# Altium footprint library QFP5-60.PcbLib: 1 footprints
Each footprint in its own frame and in the unit in brackets; x right, y up, seen from the top. Pads: shape width x height; smd on the part's side, far side on the other; paste and mask are expansions set on the pad; w line width, h text height; cw(c..) or ccw(c..) is an arc to the next point about the centre after c.
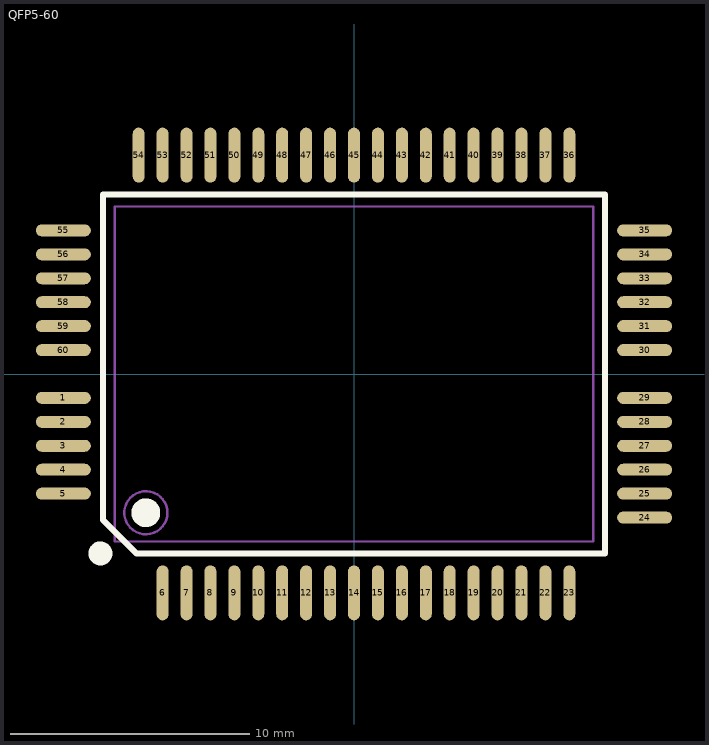
[diagram p0: the footprint, top view; thin cyan lines are the x and y axes]

## QFP5-60 [mm]
pads (60):
  oval 2.3x0.5 smd: 1(-12.15,-1) 2(-12.15,-2) 3(-12.15,-3) 4(-12.15,-4) 5(-12.15,-5) 24(12.15,-6) 25(12.15,-5) 26(12.15,-4) 27(12.15,-3) 28(12.15,-2) 29(12.15,-1) 30(12.15,1) 31(12.15,2) 32(12.15,3) 33(12.15,4) 34(12.15,5) 35(12.15,6) 55(-12.15,6) 56(-12.15,5) 57(-12.15,4) 58(-12.15,3) 59(-12.15,2) 60(-12.15,1)
  oval 0.5x2.3 smd: 6(-8,-9.15) 7(-7,-9.15) 8(-6,-9.15) 9(-5,-9.15) 10(-4,-9.15) 11(-3,-9.15) 12(-2,-9.15) 13(-1,-9.15) 14(0,-9.15) 15(1,-9.15) 16(2,-9.15) 17(3,-9.15) 18(4,-9.15) 19(5,-9.15) 20(6,-9.15) 21(7,-9.15) 22(8,-9.15) 23(9,-9.15) 36(9,9.15) 37(8,9.15) 38(7,9.15) 39(6,9.15) 40(5,9.15) 41(4,9.15) 42(3,9.15) 43(2,9.15) 44(1,9.15) 45(0,9.15) 46(-1,9.15) 47(-2,9.15) 48(-3,9.15) 49(-4,9.15) 50(-5,9.15) 51(-6,9.15) 52(-7,9.15) 53(-8,9.15) 54(-9,9.15)
Top Overlay:
  circle w0.6: c-8.7,-5.8 r0.3
  circle w0.5: c-10.6,-7.5 r0.25
  lines w0.254: -10.5,-6.1 -9.1,-7.5 10.5,-7.5 10.5,7.5 -10.5,7.5 -10.5,-6.1
Mechanical 13:
  circle w0.1: c-8.7,-5.8 r0.9
  lines w0.1: -10,-7 -10,7 10,7 10,-7 -10,-7